# Altium schematic symbol library 1.27排针-排母.SchLib: 38 symbols
Pins are listed as number, name and electrical type; pins without a type are passive.

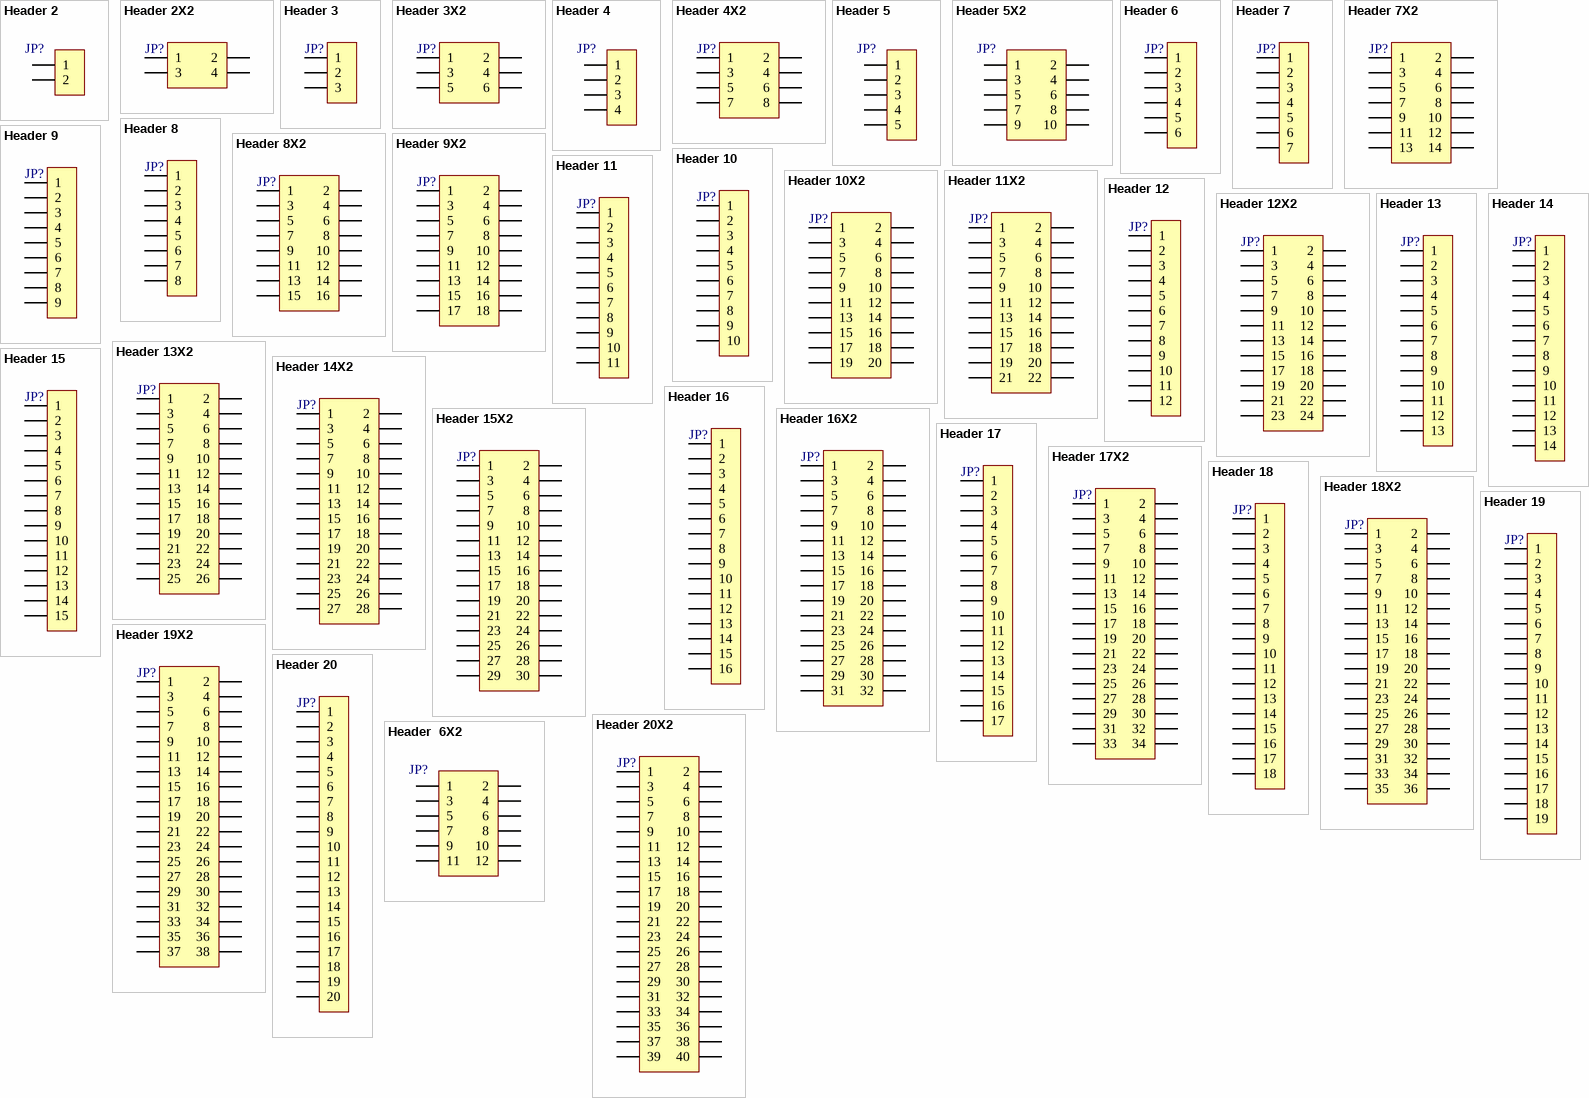
[diagram p0: symbols Header 2 to Header  6X2]

## Header 2
designator JP?, comment HDR-1X2  (value not drawn)
2P接插件; BOM名称: 2P接插件
footprint HDR1.27-LI-2P (直插，脚距：1.27mm)
footprint HDR1.27-M-LI-2P (直插，脚距：1.27mm)
footprint HDR1.27-WI-A-2P (直插，脚距：1.27mm)
pins: 1, 2

## Header 2X2
designator JP?, comment Header2X2  (value not drawn)
2*2P接插件; BOM名称: 2*2P接插件
footprint HDR1.27-LS-2x2P (双排贴片排针，脚距：1.27mm)
footprint HDR1.27-LI-2x2P (双排直插，脚距：1.27mm)
footprint HDR1.27-WI-A-2x2P (双排直插，脚距：1.27mm)
footprint HDR1.27-M-LI-2x2P (双排直插排母，脚距：1.27mm)
footprint HDR1.27-M-LS-2x2P (双排贴片排母，脚距：1.27mm)
pins: 1, 2, 3, 4

## Header 3
designator JP?, comment HDR-1X3  (value not drawn)
3P接插件; BOM名称: 3P接插件
footprint HDR1.27-LI-3P (直插，脚距：1.27mm)
footprint HDR1.27-M-LI-3P (直插，脚距：1.27mm)
footprint HDR1.27-WI-A-3P (直插，脚距：1.27mm)
pins: 1, 2, 3

## Header 3X2
designator JP?, comment Header3X2  (value not drawn)
3*2P接插件; BOM名称: 3*2P接插件
footprint HDR1.27-LS-2x3P (双排贴片排针，脚距：1.27mm)
footprint HDR1.27-LI-2x3P (双排直插，脚距：1.27mm)
footprint HDR1.27-M-LS-2x3P (双排贴片排母，脚距：1.27mm)
footprint HDR1.27-M-LI-2x3P (双排直插排母，脚距：1.27mm)
footprint HDR1.27-WI-A-2x3P (双排直插，脚距：1.27mm)
pins: 1, 2, 3, 4, 5, 6

## Header 4
designator JP?, comment HDR-1X4  (value not drawn)
4P接插件; BOM名称: 4P接插件
footprint HDR1.27-LI-4P (直插，脚距：1.27mm)
footprint HDR1.27-M-LI-4P (直插，脚距：1.27mm)
footprint HDR1.27-WI-A-4P (直插，脚距：1.27mm)
pins: 1, 2, 3, 4

## Header 4X2
designator JP?  (value not drawn)
4*2P接插件; BOM名称: 4*2P接插件
footprint HDR1.27-LS-2x4P (双排贴片排针，脚距：1.27mm)
footprint HDR1.27-LI-2x4P (双排直插，脚距：1.27mm)
footprint HDR1.27-WI-A-2x4P (双排直插，脚距：1.27mm)
footprint HDR1.27-M-LI-2x4P (双排直插排母，脚距：1.27mm)
footprint HDR1.27-M-LS-2x4P (双排贴片排母，脚距：1.27mm)
pins: 1, 2, 3, 4, 5, 6, 7, 8

## Header 5
designator JP?, comment HDR-1X5  (value not drawn)
5P接插件; BOM名称: 5P接插件
footprint HDR1.27-LI-5P (直插，脚距：1.27mm)
footprint HDR1.27-M-LI-5P (直插，脚距：1.27mm)
footprint HDR1.27-WI-A-5P (直插，脚距：1.27mm)
pins: 1, 2, 3, 4, 5

## Header 5X2
designator JP?  (value not drawn)
5*2P接插件; BOM名称: 5*2P接插件
footprint HDR1.27-LS-2x5P (双排贴片排针，脚距：1.27mm)
footprint HDR1.27-LI-2x5P (双排直插，脚距：1.27mm)
footprint HDR1.27-WI-A-2x5P (双排直插，脚距：1.27mm)
footprint HDR1.27-M-LI-2x5P (Footprint not found)
footprint HDR1.27-M-LS-2x5P (双排贴片排母，脚距：1.27mm)
pins: 1, 2, 3, 4, 5, 6, 7, 8, 9, 10

## Header 6
designator JP?, comment HDR-1X6  (value not drawn)
6P接插件; BOM名称: 6P接插件
footprint HDR1.27-LI-6P (直插，脚距：1.27mm)
footprint HDR1.27-M-LI-6P (直插，脚距：1.27mm)
footprint HDR1.27-WI-A-6P (直插，脚距：1.27mm)
pins: 1, 2, 3, 4, 5, 6

## Header 7
designator JP?, comment HDR-1X7  (value not drawn)
7P接插件; BOM名称: 7P接插件
footprint HDR1.27-LI-7P (直插，脚距：1.27mm)
footprint HDR1.27-M-LI-7P (直插，脚距：1.27mm)
footprint HDR1.27-WI-A-7P (直插，脚距：1.27mm)
pins: 1, 2, 3, 4, 5, 6, 7

## Header 7X2
designator JP?, comment Header 2X7  (value not drawn)
7*2P接插件; BOM名称: 7*2P接插件
footprint HDR1.27-LS-2x7P (双排贴片排针，脚距：1.27mm)
footprint HDR1.27-LI-2x7P (双排直插，脚距：1.27mm)
footprint HDR1.27-WI-A-2x7P (双排直插，脚距：1.27mm)
footprint HDR1.27-M-LI-2x7P (双排直插排母，脚距：1.27mm)
footprint HDR1.27-M-LS-2x7P (双排贴片排母，脚距：1.27mm)
pins: 1, 2, 3, 4, 5, 6, 7, 8, 9, 10, 11, 12, 13, 14

## Header 8
designator JP?, comment HDR-1X8  (value not drawn)
8P接插件; BOM名称: 8P接插件
footprint HDR1.27-LI-8P (直插，脚距：1.27mm)
footprint HDR1.27-M-LI-8P (直插，脚距：1.27mm)
footprint HDR1.27-WI-A-8P (直插，脚距：1.27mm)
pins: 1, 2, 3, 4, 5, 6, 7, 8

## Header 8X2
designator JP?  (value not drawn)
8*2P接插件; BOM名称: 8*2P接插件
footprint HDR1.27-M-LI-2x8P (双排直插排母，脚距：1.27mm)
footprint HDR1.27-LI-2x8P (双排直插，脚距：1.27mm)
footprint HDR1.27-WI-A-2x8P (双排直插，脚距：1.27mm)
footprint HDR1.27-M-LS-2x8P (双排贴片排母，脚距：1.27mm)
footprint HDR1.27-LS-2x8P (双排贴片排针，脚距：1.27mm)
pins: 1, 2, 3, 4, 5, 6, 7, 8, 9, 10, 11, 12, 13, 14, 15, 16

## Header 9
designator JP?, comment HDR-1X9  (value not drawn)
9P接插件; BOM名称: 9P接插件
footprint HDR1.27-LI-9P (直插，脚距：1.27mm)
footprint HDR1.27-M-LI-9P (直插，脚距：1.27mm)
footprint HDR1.27-WI-A-9P (直插，脚距：1.27mm)
pins: 1, 2, 3, 4, 5, 6, 7, 8, 9

## Header 9X2
designator JP?  (value not drawn)
9*2P接插件; BOM名称: 9*2P接插件
footprint HDR1.27-M-LI-2x9P (双排直插排母，脚距：1.27mm)
footprint HDR1.27-LI-2x9P (双排直插，脚距：1.27mm)
footprint HDR1.27-WI-A-2x9P (双排直插，脚距：1.27mm)
footprint HDR1.27-M-LS-2x9P (双排贴片排母，脚距：1.27mm)
footprint HDR1.27-LS-2x9P (双排贴片排针，脚距：1.27mm)
pins: 1, 2, 3, 4, 5, 6, 7, 8, 9, 10, 11, 12, 13, 14, 15, 16, 17, 18

## Header 10
designator JP?, comment HDR-1X10  (value not drawn)
10P接插件; BOM名称: 10P接插件
footprint HDR1.27-LI-10P (直插，脚距：1.27mm)
footprint HDR1.27-M-LI-10P (直插，脚距：1.27mm)
footprint HDR1.27-WI-A-10P (直插，脚距：1.27mm)
pins: 1, 2, 3, 4, 5, 6, 7, 8, 9, 10

## Header 10X2
designator JP?, comment Header 2X10  (value not drawn)
10*2P接插件; BOM名称: 10*2P接插件
footprint HDR1.27-M-LS-2x10P (双排贴片排母，脚距：1.27mm)
footprint HDR1.27-M-LI-2x10P (双排直插排母，脚距：1.27mm)
footprint HDR1.27-WI-A-2x10P (双排直插，脚距：1.27mm)
footprint HDR1.27-LI-2x10P (双排直插，脚距：1.27mm)
footprint HDR1.27-LS-2x10P (双排贴片排针，脚距：1.27mm)
pins: 1, 2, 3, 4, 5, 6, 7, 8, 9, 10, 11, 12, 13, 14, 15, 16, 17, 18, 19, 20

## Header 11
designator JP?, comment HDR-1X11  (value not drawn)
11P接插件; BOM名称: 11P接插件
footprint HDR1.27-LI-11P (直插，脚距：1.27mm)
footprint HDR1.27-M-LI-11P (直插，脚距：1.27mm)
footprint HDR1.27-WI-A-11P (直插，脚距：1.27mm)
pins: 1, 2, 3, 4, 5, 6, 7, 8, 9, 10, 11

## Header 11X2
designator JP?, comment Header 2X11  (value not drawn)
11*2P接插件; BOM名称: 11*2P接插件
footprint HDR1.27-LS-2x11P (双排贴片排针，脚距：1.27mm)
footprint HDR1.27-LI-2x11P (双排直插，脚距：1.27mm)
footprint HDR1.27-WI-A-2x11P (双排直插，脚距：1.27mm)
footprint HDR1.27-M-LI-2x11P (双排直插排母，脚距：1.27mm)
footprint HDR1.27-M-LS-2x11P (双排贴片排母，脚距：1.27mm)
pins: 1, 2, 3, 4, 5, 6, 7, 8, 9, 10, 11, 12, 13, 14, 15, 16, 17, 18, 19, 20, 21, 22

## Header 12
designator JP?, comment HDR-1X12  (value not drawn)
12P接插件; BOM名称: 12P接插件
footprint HDR1.27-LI-12P (直插，脚距：1.27mm)
footprint HDR1.27-M-LI-12P (直插，脚距：1.27mm)
footprint HDR1.27-WI-A-12P (直插，脚距：1.27mm)
pins: 1, 2, 3, 4, 5, 6, 7, 8, 9, 10, 11, 12

## Header 12X2
designator JP?, comment Header 2X11  (value not drawn)
12*2P接插件; BOM名称: 12*2P接插件
footprint HDR1.27-LI-2x12P (双排直插，脚距：1.27mm)
footprint HDR1.27-LS-2x12P (双排贴片排针，脚距：1.27mm)
footprint HDR1.27-M-LI-2x12P (双排直插排母，脚距：1.27mm)
footprint HDR1.27-M-LS-2x12P (双排贴片排母，脚距：1.27mm)
footprint HDR1.27-WI-A-2x12P (双排直插，脚距：1.27mm)
pins: 1, 2, 3, 4, 5, 6, 7, 8, 9, 10, 11, 12, 13, 14, 15, 16, 17, 18, 19, 20, 21, 22, 23, 24

## Header 13
designator JP?, comment HDR-1X13  (value not drawn)
13P接插件; BOM名称: 13P接插件
footprint HDR1.27-LI-13P (直插，脚距：1.27mm)
footprint HDR1.27-M-LI-13P (直插，脚距：1.27mm)
footprint HDR1.27-WI-A-13P (直插，脚距：1.27mm)
pins: 1, 2, 3, 4, 5, 6, 7, 8, 9, 10, 11, 12, 13

## Header 13X2
designator JP?, comment Header 2X11  (value not drawn)
13*2P接插件; BOM名称: 13*2P接插件
footprint HDR1.27-LI-2x13P (双排直插，脚距：1.27mm)
footprint HDR1.27-LS-2x13P (双排贴片排针，脚距：1.27mm)
footprint HDR1.27-M-LI-2x13P (双排直插排母，脚距：1.27mm)
footprint HDR1.27-M-LS-2x13P (双排贴片排母，脚距：1.27mm)
footprint HDR1.27-WI-A-2x13P (双排直插，脚距：1.27mm)
pins: 1, 2, 3, 4, 5, 6, 7, 8, 9, 10, 11, 12, 13, 14, 15, 16, 17, 18, 19, 20, 21, 22, 23, 24, 25, 26

## Header 14
designator JP?, comment HDR-1X14  (value not drawn)
14P接插件; BOM名称: 14P接插件
footprint HDR1.27-LI-14P (直插，脚距：1.27mm)
footprint HDR1.27-M-LI-14P (直插，脚距：1.27mm)
footprint HDR1.27-WI-A-14P (直插，脚距：1.27mm)
pins: 1, 2, 3, 4, 5, 6, 7, 8, 9, 10, 11, 12, 13, 14

## Header 14X2
designator JP?, comment Header 2X11  (value not drawn)
14*2P接插件; BOM名称: 14*2P接插件
footprint HDR1.27-LI-2x14P (双排直插，脚距：1.27mm)
footprint HDR1.27-LS-2x14P (双排贴片排针，脚距：1.27mm)
footprint HDR1.27-M-LI-2x14P (双排直插排母，脚距：1.27mm)
footprint HDR1.27-M-LS-2x14P (双排贴片排母，脚距：1.27mm)
footprint HDR1.27-WI-A-2x14P (双排直插，脚距：1.27mm)
footprint HDR1.27-WI-A-2x15P (双排直插，脚距：1.27mm)
pins: 1, 2, 3, 4, 5, 6, 7, 8, 9, 10, 11, 12, 13, 14, 15, 16, 17, 18, 19, 20, 21, 22, 23, 24, 25, 26, 27, 28

## Header 15
designator JP?, comment HDR-1X15  (value not drawn)
15P接插件; BOM名称: 15P接插件
footprint HDR1.27-LI-15P (直插，脚距：1.27mm)
footprint HDR1.27-M-LI-15P (直插，脚距：1.27mm)
footprint HDR1.27-WI-A-15P (直插，脚距：1.27mm)
pins: 1, 2, 3, 4, 5, 6, 7, 8, 9, 10, 11, 12, 13, 14, 15

## Header 15X2
designator JP?, comment Header 2X11  (value not drawn)
15*2P接插件; BOM名称: 15*2P接插件
footprint HDR1.27-LI-2x15P (双排直插，脚距：1.27mm)
footprint HDR1.27-WI-A-2x15P (双排直插，脚距：1.27mm)
footprint HDR1.27-M-LS-2x15P (双排贴片排母，脚距：1.27mm)
footprint HDR1.27-LS-2x15P (双排贴片排针，脚距：1.27mm)
footprint HDR1.27-M-LI-2x15P (双排直插排母，脚距：1.27mm)
pins: 1, 2, 3, 4, 5, 6, 7, 8, 9, 10, 11, 12, 13, 14, 15, 16, 17, 18, 19, 20, 21, 22, 23, 24, 25, 26, 27, 28, 29, 30

## Header 16
designator JP?, comment HDR-1X16  (value not drawn)
16P接插件; BOM名称: 16P接插件
footprint HDR1.27-LI-16P (直插，脚距：1.27mm)
footprint HDR1.27-M-LI-16P (直插，脚距：1.27mm)
footprint HDR1.27-WI-A-16P (直插，脚距：1.27mm)
pins: 1, 2, 3, 4, 5, 6, 7, 8, 9, 10, 11, 12, 13, 14, 15, 16

## Header 16X2
designator JP?, comment Header 2X11  (value not drawn)
16*2P接插件; BOM名称: 16*2P接插件
footprint HDR1.27-LS-2x16P (双排贴片排针，脚距：1.27mm)
footprint HDR1.27-WI-A-2x16P (双排直插，脚距：1.27mm)
footprint HDR1.27-M-LI-2x16P (双排直插排母，脚距：1.27mm)
footprint HDR1.27-M-LS-2x16P (双排贴片排母，脚距：1.27mm)
footprint HDR1.27-LI-2x16P (双排直插，脚距：1.27mm)
pins: 1, 2, 3, 4, 5, 6, 7, 8, 9, 10, 11, 12, 13, 14, 15, 16, 17, 18, 19, 20, 21, 22, 23, 24, 25, 26, 27, 28, 29, 30, 31, 32

## Header 17
designator JP?, comment HDR-1X17  (value not drawn)
17P接插件; BOM名称: 17P接插件
footprint HDR1.27-LI-17P (直插，脚距：1.27mm)
footprint HDR1.27-M-LI-17P (直插，脚距：1.27mm)
footprint HDR1.27-WI-A-17P (直插，脚距：1.27mm)
pins: 1, 2, 3, 4, 5, 6, 7, 8, 9, 10, 11, 12, 13, 14, 15, 16, 17

## Header 17X2
designator JP?, comment Header 2X11  (value not drawn)
17*2P接插件; BOM名称: 17*2P接插件
footprint HDR1.27-WI-A-2x17P (双排直插，脚距：1.27mm)
footprint HDR1.27-M-LS-2x17P (双排贴片排母，脚距：1.27mm)
footprint HDR1.27-M-LI-2x17P (双排直插排母，脚距：1.27mm)
footprint HDR1.27-LS-2x17P (双排贴片排针，脚距：1.27mm)
footprint HDR1.27-LI-2x17P (双排直插，脚距：1.27mm)
pins: 1, 2, 3, 4, 5, 6, 7, 8, 9, 10, 11, 12, 13, 14, 15, 16, 17, 18, 19, 20, 21, 22, 23, 24, 25, 26, 27, 28, 29, 30, 31, 32, 33, 34

## Header 18
designator JP?, comment HDR-1X18  (value not drawn)
18P接插件; BOM名称: 18P接插件
footprint HDR1.27-WI-A-18P (直插，脚距：1.27mm)
footprint HDR1.27-LI-18P (直插，脚距：1.27mm)
footprint HDR1.27-M-LI-18P (直插，脚距：1.27mm)
pins: 1, 2, 3, 4, 5, 6, 7, 8, 9, 10, 11, 12, 13, 14, 15, 16, 17, 18

## Header 18X2
designator JP?, comment Header 2X11  (value not drawn)
18*2P接插件; BOM名称: 18*2P接插件
footprint HDR1.27-M-LS-2x18P (双排贴片排母，脚距：1.27mm)
footprint HDR1.27-WI-A-2x18P (双排直插，脚距：1.27mm)
footprint HDR1.27-M-LI-2x18P (双排直插排母，脚距：1.27mm)
footprint HDR1.27-LS-2x18P (双排贴片排针，脚距：1.27mm)
footprint HDR1.27-LI-2x18P (双排直插，脚距：1.27mm)
pins: 1, 2, 3, 4, 5, 6, 7, 8, 9, 10, 11, 12, 13, 14, 15, 16, 17, 18, 19, 20, 21, 22, 23, 24, 25, 26, 27, 28, 29, 30, 31, 32, 33, 34, 35, 36

## Header 19
designator JP?, comment HDR-1X19  (value not drawn)
19P接插件; BOM名称: 19P接插件
footprint HDR1.27-LI-19P (直插，脚距：1.27mm)
footprint HDR1.27-M-LI-19P (直插，脚距：1.27mm)
footprint HDR1.27-WI-A-19P (直插，脚距：1.27mm)
pins: 1, 2, 3, 4, 5, 6, 7, 8, 9, 10, 11, 12, 13, 14, 15, 16, 17, 18, 19

## Header 19X2
designator JP?, comment Header 2X11  (value not drawn)
19*2P接插件; BOM名称: 19*2P接插件
footprint HDR1.27-WI-A-2x19P (双排直插，脚距：1.27mm)
footprint HDR1.27-M-LS-2x19P (双排贴片排母，脚距：1.27mm)
footprint HDR1.27-M-LI-2x19P (双排直插排母，脚距：1.27mm)
footprint HDR1.27-LS-2x19P (双排贴片排针，脚距：1.27mm)
footprint HDR1.27-LI-2x19P (双排直插，脚距：1.27mm)
pins: 1, 2, 3, 4, 5, 6, 7, 8, 9, 10, 11, 12, 13, 14, 15, 16, 17, 18, 19, 20, 21, 22, 23, 24, 25, 26, 27, 28, 29, 30, 31, 32, 33, 34, 35, 36, 37, 38

## Header 20
designator JP?, comment HDR-1X20  (value not drawn)
20P接插件; BOM名称: 20P接插件
footprint HDR1.27-LI-20P (直插，脚距：1.27mm)
footprint HDR1.27-M-LI-20P (直插，脚距：1.27mm)
footprint HDR1.27-WI-A-20P (直插，脚距：1.27mm)
pins: 1, 2, 3, 4, 5, 6, 7, 8, 9, 10, 11, 12, 13, 14, 15, 16, 17, 18, 19, 20

## Header 20X2
designator JP?, comment Header 2X11  (value not drawn)
20*2P接插件; BOM名称: 20*2P接插件
footprint HDR1.27-WI-A-2x20P (双排直插，脚距：1.27mm)
footprint HDR1.27-M-LS-2x20P (双排贴片排母，脚距：1.27mm)
footprint HDR1.27-M-LI-2x20P (双排直插排母，脚距：1.27mm)
footprint HDR1.27-LS-2x20P (双排贴片排针，脚距：1.27mm)
footprint HDR1.27-LI-2x20P (双排直插，脚距：1.27mm)
pins: 1, 2, 3, 4, 5, 6, 7, 8, 9, 10, 11, 12, 13, 14, 15, 16, 17, 18, 19, 20, 21, 22, 23, 24, 25, 26, 27, 28, 29, 30, 31, 32, 33, 34, 35, 36, 37, 38, 39, 40

## Header  6X2
designator JP?, comment Header 6X2  (value not drawn)
6*2P接插件; BOM名称: 6*2P接插件
footprint HDR1.27-LS-2x6P (双排贴片排针，脚距：1.27mm)
footprint HDR1.27-LI-2x6P (双排直插，脚距：1.27mm)
footprint HDR1.27-WI-A-2x6P (双排直插，脚距：1.27mm)
footprint HDR1.27-M-LI-2x6P (双排直插排母，脚距：1.27mm)
footprint HDR1.27-M-LS-2x6P (双排贴片排母，脚距：1.27mm)
pins: 1, 2, 3, 4, 5, 6, 7, 8, 9, 10, 11, 12